# EAGLE library part 610X1621821 (library Wurth_Elektronik_Electromechanic_Board_to_Board_Connectors_rev16a)
WR-PHD 2.54mm Dual SMT Socket Header, 16 Pins=>Code : Con_BTB_SHD_2.54_1_SMT_610x1621821(packageing:x = 0: Tube x = 3: Tape & Reel with Cap; 600 pcs/Reel) <http://katalog.we-online.de/media/images/eican/Con_BTB_SHD_2.54_1_SMT_6100xx21821_pf2.jpg> 6100xx21821 Details see: http://katalog.we-online.de/en/em/610_0xx_218_21 6103xx21821 Details see: http://katalog.we-online.de/en/em/PHD_2_54_SMT_DUAL_SOCKET_HEADER_REEL_6103XX21821 2014 (C) Würth Elektronik
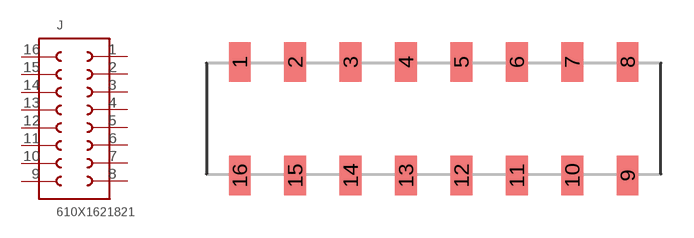
[diagram p217: symbol with the pads of 610X1621821; footprint 610X1621821]

Designator prefix J

## 610X1621821  [610X1621821]
1  1  pas
2  2  pas
3  3  pas
4  4  pas
5  5  pas
6  6  pas
7  7  pas
8  8  pas
9  9  pas
10  10  pas
11  11  pas
12  12  pas
13  13  pas
14  14  pas
15  15  pas
16  16  pas

## Footprint 610X1621821 (pad centres in mm)
WR-PHD 2.54mm Dual SMT Socket Header, 16 Pins
smd 1 x 1.8: 1 -8.89,2.6; 2 -6.35,2.6; 3 -3.81,2.6; 4 -1.27,2.6; 5 1.27,2.6; 6 3.81,2.6; 7 6.35,2.6; 8 8.89,2.6; 9 8.89,-2.6; 10 6.35,-2.6; 11 3.81,-2.6; 12 1.27,-2.6; 13 -1.27,-2.6; 14 -3.81,-2.6; 15 -6.35,-2.6; 16 -8.89,-2.6